# EAGLE library part LPC4076FET180 (library nxp_60_1_1)
32-bit ARM Cortex-M4 MCU; up to 512 kB flash, 96 kB SRAM; USB Device/Host/OTG; Ethernet; LCD; EMC; SPIFI The LPC408x/7x is an ARM Cortex-M4 based digital signal controller for embedded applications requiring a high level of integration and low power dissipation. The ARM Cortex-M4 is a next generation core that offers system enhancements such as low power consumption, enhanced debug features, and a high level of support block integration. The ARM Cortex-M4 CPU incorporates a 3-stage pipeline, uses a Harvard architecture with separate local instruction and data buses as well as a third bus for peripherals, and includes an internal prefetch unit that supports speculative branching. The ARM Cortex-M4 supports single-cycle digital signal processing and SIMD instructions. A hardware floating-point processor is integrated in the core for several versions of the part. The LPC408x/7x adds a specialized flash memory accelerator to accomplish optimal performance when executing code from flash. The LPC408x/7x is targeted to operate at up to 120 MHz CPU frequency. The peripheral complement of the LPC408x/7x includes up to 512 kB of flash program memory, up to 96 kB of SRAM data memory, up to 4032 byte of EEPROM data memory, External Memory controller (EMC), LCD, Ethernet, USB Device/Host/OTG, an SPI Flash Interface (SPIFI), a General Purpose DMA controller, five UARTs, three SSP controllers, three I 2 C-bus interfaces, a Quadrature Encoder Interface, four general purpose timers, two general purpose PWMs with six outputs each and one motor control PWM, an ultra-low power RTC with separate battery supply and event recorder, a windowed watchdog timer, a CRC calculation engine and up to 165 general purpose I/O pins. The analog peripherals include one eight-channel 12-bit ADC, two analog comparators, and a DAC. The pinout of LPC408x/7x is intended to allow pin function compatibility with the LPC24xx/23xx as well as the LPC178x/7x families. AAL Eindhoven MK
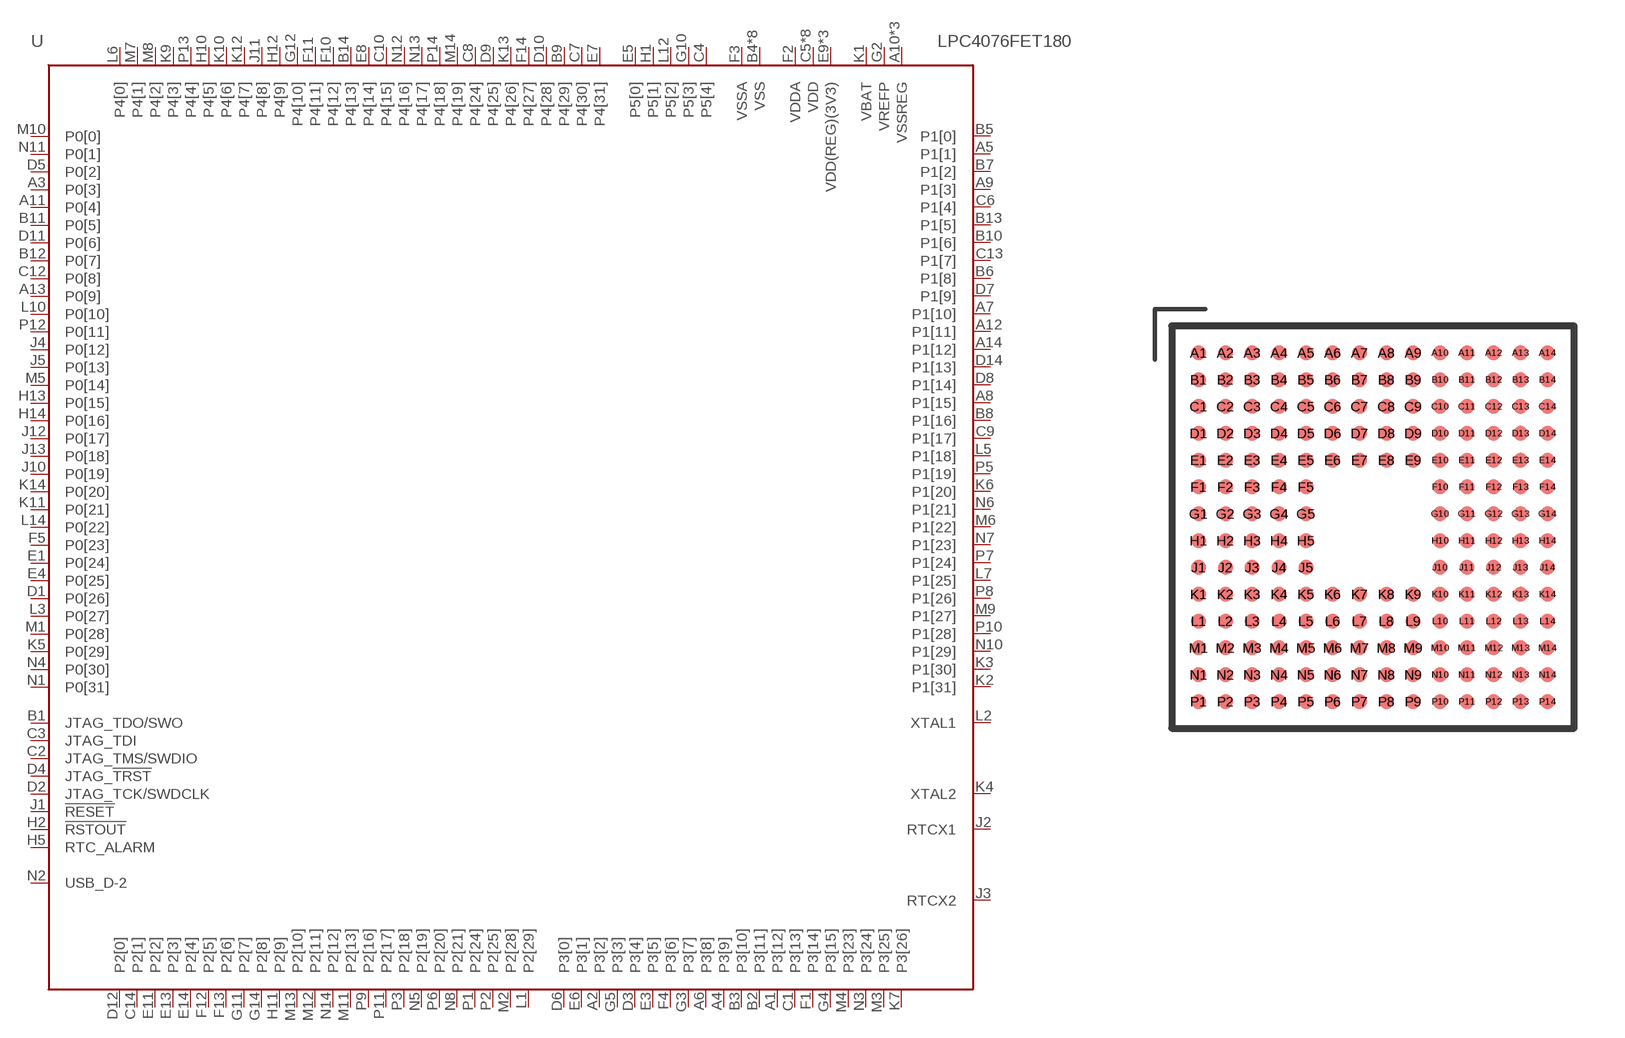
[diagram p139: symbol with the pads of SOT570-2; footprint SOT570-2]

Designator prefix U

## LPC4076FET180  [SOT570-2]
A1  P3[12]
A2  P3[2]
A3  P0[3]
A4  P3[9]
A5  P1[1]
A6  P3[8]
A7  P1[10]
A8  P1[15]
A9  P1[3]
A10  VSSREG  pwr
A11  P0[4]
A12  P1[11]
A13  P0[9]
A14  P1[12]
B1  JTAG_TDO/SWO  out
B2  P3[11]
B3  P3[10]
B4  VSS  pwr
B5  P1[0]
B6  P1[8]
B7  P1[2]
B8  P1[16]
B9  P4[29]
B10  P1[6]
B11  P0[5]
B12  P0[7]
B13  P1[5]
B14  P4[13]
C1  P3[13]
C2  JTAG_TMS/SWDIO  in
C3  JTAG_TDI  in
C4  P5[4]
C5  VDD  pwr
C6  P1[4]
C7  P4[30]
C8  P4[24]
C9  P1[17]
C10  P4[15]
C11  VSS  pwr
C12  P0[8]
C13  P1[7]
C14  P2[1]
D1  P0[26]
D2  JTAG_TCK/SWDCLK  in
D3  P3[4]
D4  JTAG_!TRST  in
D5  P0[2]
D6  P3[0]
D7  P1[9]
D8  P1[14]
D9  P4[25]
D10  P4[28]
D11  P0[6]
D12  P2[0]
D13  VSS  pwr
D14  P1[13]
E1  P0[24]
E2  VDD  pwr
E3  P3[5]
E4  P0[25]
E5  P5[0]
E6  P3[1]
E7  P4[31]
E8  P4[14]
E9  VDD(REG)(3V3)  pwr
E10  VDD  pwr
E11  P2[2]
E12  VDD  pwr
E13  P2[3]
E14  P2[4]
F1  P3[14]
F2  VDDA  pwr
F3  VSSA  pwr
F4  P3[6]
F5  P0[23]
F10  P4[12]
F11  P4[11]
F12  P2[5]
F13  P2[6]
F14  P4[27]
G1  VDD(REG)(3V3)  pwr
G2  VREFP  pwr
G3  P3[7]
G4  P3[15]
G5  P3[3]
G10  P5[3]
G11  P2[7]
G12  P4[10]
G13  VSS  pwr
G14  P2[8]
H1  P5[1]
H2  !RSTOUT!  out
H3  VSSREG  pwr
H4  VSS  pwr
H5  RTC_ALARM  out
H10  P4[5]
H11  P2[9]
H12  P4[9]
H13  P0[15]
H14  P0[16]
J1  !RESET!  in
J2  RTCX1  in
J3  RTCX2  out
J4  P0[12]
J5  P0[13]
J10  P0[19]
J11  P4[8]
J12  P0[17]
J13  P0[18]
J14  VDD  pwr
K1  VBAT  pwr
K2  P1[31]
K3  P1[30]
K4  XTAL2  out
K5  P0[29]
K6  P1[20]
K7  P3[26]
K8  VDD  pwr
K9  P4[3]
K10  P4[6]
K11  P0[21]
K12  P4[7]
K13  P4[26]
K14  P0[20]
L1  P2[29]
L2  XTAL1  in
L3  P0[27]
L4  VDD  pwr
L5  P1[18]
L6  P4[0]
L7  P1[25]
L8  VSSREG  pwr
L9  VSS  pwr
L10  P0[10]
L11  VDD  pwr
L12  P5[2]
L13  VSS  pwr
L14  P0[22]
M1  P0[28]
M2  P2[28]
M3  P3[25]
M4  P3[23]
M5  P0[14]
M6  P1[22]
M7  P4[1]
M8  P4[2]
M9  P1[27]
M10  P0[0]
M11  P2[13]
M12  P2[11]
M13  P2[10]
M14  P4[19]
N1  P0[31]
N2  USB_D-2
N3  P3[24]
N4  P0[30]
N5  P2[19]
N6  P1[21]
N7  P1[23]
N8  P2[21]
N9  VDD(REG)(3V3)  pwr
N10  P1[29]
N11  P0[1]
N12  P4[16]
N13  P4[17]
N14  P2[12]
P1  P2[24]
P2  P2[25]
P3  P2[18]
P4  VSS  pwr
P5  P1[19]
P6  P2[20]
P7  P1[24]
P8  P1[26]
P9  P2[16]
P10  P1[28]
P11  P2[17]
P12  P0[11]
P13  P4[4]
P14  P4[18]

## Footprint SOT570-2 (pad centres in mm)
SOT570-2 TFBGA180: thin fine-pitch ball grid array package; 180 balls; body 12 x 12 x 0.8 mm JEDEC: -- IEC: -- JEITA: -- Shamelessly copied from nxp_packages.lbr
smd 0.45 x 0.45: A1 -5.2,5.2; A2 -4.4,5.2; A3 -3.6,5.2; A4 -2.8,5.2; A5 -2,5.2; A6 -1.2,5.2; A7 -0.4,5.2; A8 0.4,5.2; A9 1.2,5.2; A10 2,5.2; A11 2.8,5.2; A12 3.6,5.2; A13 4.4,5.2; A14 5.2,5.2; B1 -5.2,4.4; B2 -4.4,4.4; B3 -3.6,4.4; B4 -2.8,4.4; B5 -2,4.4; B6 -1.2,4.4; B7 -0.4,4.4; B8 0.4,4.4; B9 1.2,4.4; B10 2,4.4; B11 2.8,4.4; B12 3.6,4.4; B13 4.4,4.4; B14 5.2,4.4; C1 -5.2,3.6; C2 -4.4,3.6; C3 -3.6,3.6; C4 -2.8,3.6; C5 -2,3.6; C6 -1.2,3.6; C7 -0.4,3.6; C8 0.4,3.6; C9 1.2,3.6; C10 2,3.6; C11 2.8,3.6; C12 3.6,3.6; C13 4.4,3.6; C14 5.2,3.6; D1 -5.2,2.8; D2 -4.4,2.8; D3 -3.6,2.8; D4 -2.8,2.8; D5 -2,2.8; D6 -1.2,2.8; D7 -0.4,2.8; D8 0.4,2.8; D9 1.2,2.8; D10 2,2.8; D11 2.8,2.8; D12 3.6,2.8; D13 4.4,2.8; D14 5.2,2.8; E1 -5.2,2; E2 -4.4,2; E3 -3.6,2; E4 -2.8,2; E5 -2,2; E6 -1.2,2; E7 -0.4,2; E8 0.4,2; E9 1.2,2; E10 2,2; E11 2.8,2; E12 3.6,2; E13 4.4,2; E14 5.2,2; F1 -5.2,1.2; F2 -4.4,1.2; F3 -3.6,1.2; F4 -2.8,1.2; F5 -2,1.2; F10 2,1.2; F11 2.8,1.2; F12 3.6,1.2; F13 4.4,1.2; F14 5.2,1.2; G1 -5.2,0.4; G2 -4.4,0.4; G3 -3.6,0.4; G4 -2.8,0.4; G5 -2,0.4; G10 2,0.4; G11 2.8,0.4; G12 3.6,0.4; G13 4.4,0.4; G14 5.2,0.4; H1 -5.2,-0.4; H2 -4.4,-0.4; H3 -3.6,-0.4; H4 -2.8,-0.4; H5 -2,-0.4; H10 2,-0.4; H11 2.8,-0.4; H12 3.6,-0.4; H13 4.4,-0.4; H14 5.2,-0.4; J1 -5.2,-1.2; J2 -4.4,-1.2; J3 -3.6,-1.2; J4 -2.8,-1.2; J5 -2,-1.2; J10 2,-1.2; J11 2.8,-1.2; J12 3.6,-1.2; J13 4.4,-1.2; J14 5.2,-1.2; K1 -5.2,-2; K2 -4.4,-2; K3 -3.6,-2; K4 -2.8,-2; K5 -2,-2; K6 -1.2,-2; K7 -0.4,-2; K8 0.4,-2; K9 1.2,-2; K10 2,-2; K11 2.8,-2; K12 3.6,-2; K13 4.4,-2; K14 5.2,-2; L1 -5.2,-2.8; L2 -4.4,-2.8; L3 -3.6,-2.8; L4 -2.8,-2.8; L5 -2,-2.8; L6 -1.2,-2.8; L7 -0.4,-2.8; L8 0.4,-2.8; L9 1.2,-2.8; L10 2,-2.8; L11 2.8,-2.8; L12 3.6,-2.8; L13 4.4,-2.8; L14 5.2,-2.8; M1 -5.2,-3.6; M2 -4.4,-3.6; M3 -3.6,-3.6; M4 -2.8,-3.6; M5 -2,-3.6; M6 -1.2,-3.6; M7 -0.4,-3.6; M8 0.4,-3.6; M9 1.2,-3.6; M10 2,-3.6; M11 2.8,-3.6; M12 3.6,-3.6; M13 4.4,-3.6; M14 5.2,-3.6; N1 -5.2,-4.4; N2 -4.4,-4.4; N3 -3.6,-4.4; N4 -2.8,-4.4; N5 -2,-4.4; N6 -1.2,-4.4; N7 -0.4,-4.4; N8 0.4,-4.4; N9 1.2,-4.4; N10 2,-4.4; N11 2.8,-4.4; N12 3.6,-4.4; N13 4.4,-4.4; N14 5.2,-4.4; P1 -5.2,-5.2; P2 -4.4,-5.2; P3 -3.6,-5.2; P4 -2.8,-5.2; P5 -2,-5.2; P6 -1.2,-5.2; P7 -0.4,-5.2; P8 0.4,-5.2; P9 1.2,-5.2; P10 2,-5.2; P11 2.8,-5.2; P12 3.6,-5.2; P13 4.4,-5.2; P14 5.2,-5.2